# Altium integrated library F32Q-1A7H1-11022.IntLib: 1 symbol
Pins are listed as number, name and electrical type; pins without a type are passive.

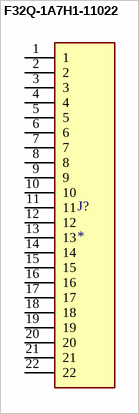
[diagram p0: symbol F32Q-1A7H1-11022]

## F32Q-1A7H1-11022
designator J?
Flex Connector, 0.50mm Pitch, Height 2.00mm, Right angle, Slider type, ZIF, Upper contact, 22 position , Without MYLAR; MF: Amphenol ICC (FCI); MP: F32Q-1A7H1-11022; SnapEDA_Link: https://www.snapeda.com/parts/F32Q-1A7H1-11022/Amphenol+FCI/view-part/?ref=snap; Package: None; Value: *; Check_prices: https://www.snapeda.com/parts/F32Q-1A7H1-11022/Amphenol+FCI/view-part/?ref=eda
footprint AMPHENOL_F32Q-1A7H1-11022
pins: 1, 2, 3, 4, 5, 6, 7, 8, 9, 10, 11, 12, 13, 14, 15, 16, 17, 18, 19, 20, 21, 22